# Altium schematic symbol library RPi Stepper Hat V1.0 SchLib.SchLib: 1 symbol
Pins are listed as number, name and electrical type; pins without a type are passive.

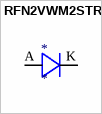
[diagram p0: symbol RFN2VWM2STR]

## RFN2VWM2STR
designator *
footprint DIOM4326X24N (Molded Diode, 2-Leads, Body 4.30x2.61mm, IPC Medium Density)
pins: A anode, K cathode